# Altium footprint library Keebs.PcbLib: 219 footprints (part 13 of 14)
Each footprint in its own frame and in the unit in brackets; x right, y up, seen from the top. Pads: shape width x height; smd on the part's side, far side on the other; paste and mask are expansions set on the pad; w line width, h text height; cw(c..) or ccw(c..) is an arc to the next point about the centre after c.
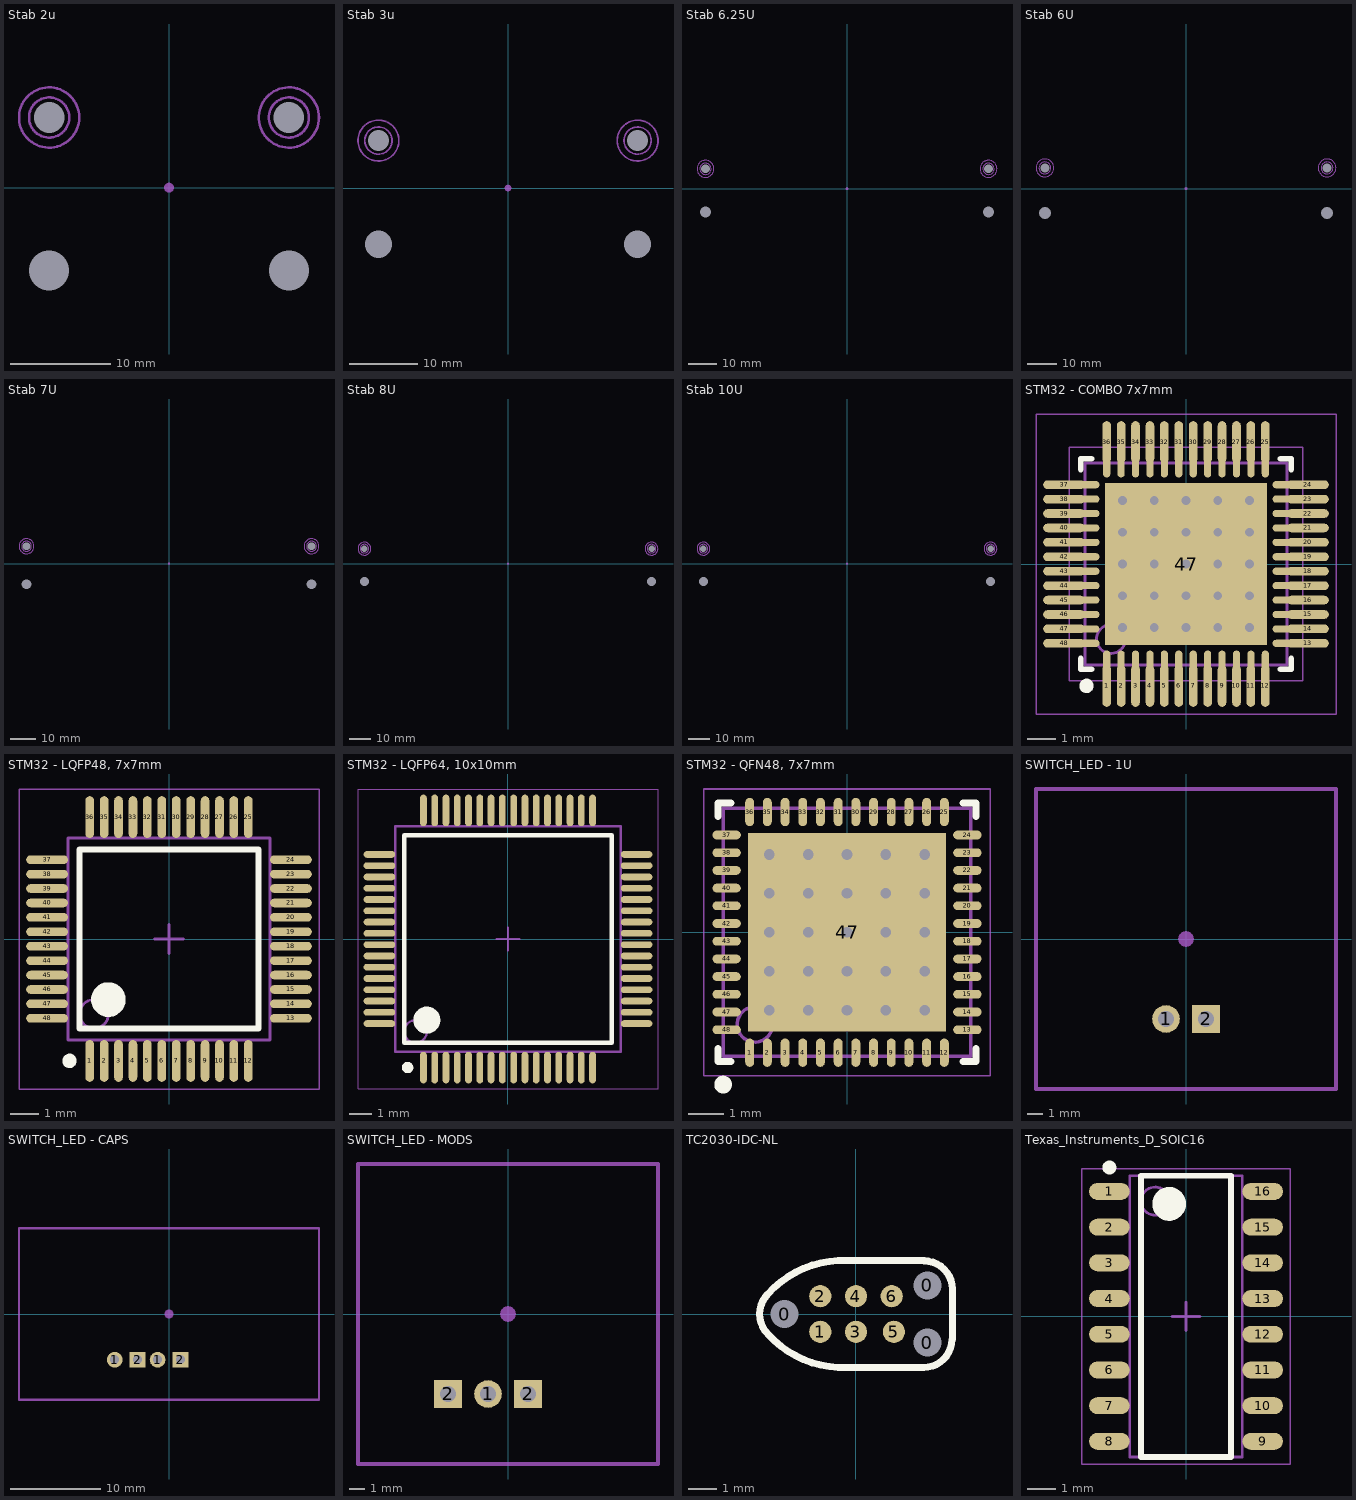
[diagram p12: the footprints below, top view; thin cyan lines are the x and y axes]

## Stab 2u [mil]
pads (6):
  round 60 hole 157.48 unplated: ""(-470,-325) ""(470,-325)
  round 60 hole 120 unplated: ""(-470,275) ""(470,275)
  round 39.37 on Mech13: ""(0,0) ""(0,0)
Mechanical 15:
  circle w10: c470,275 r118.11
  circle w10: c470,275 r78.74
  circle w10: c-470,275 r118.11
  circle w10: c-470,275 r78.74

## Stab 3u [mil]
pads (6):
  round 60 hole 157.48 unplated: ""(-750,-325) ""(750,-325)
  round 60 hole 120 unplated: ""(-750,275) ""(750,275)
  round 39.37 on Mech13: ""(0,0) ""(0,0)
Mechanical 15:
  circle w10: c-750,275 r118.11
  circle w10: c-750,275 r78.74
  circle w10: c750,275 r118.11
  circle w10: c750,275 r78.74

## Stab 6.25U [mil]
pads (5):
  round 60 hole 157.48 unplated: ""(-1968.5,-325) ""(1968.5,-325)
  round 60 hole 120 unplated: ""(-1968.5,275) ""(1968.5,275)
  round 39.37 on Mech13: ""(0,0)
Mechanical 15:
  circle w10: c-1968.5,275 r118.11
  circle w10: c-1968.5,275 r78.74
  circle w10: c1968.5,275 r118.11
  circle w10: c1968.5,275 r78.74

## Stab 6U [mil]
pads (5):
  round 60 hole 157.48 unplated: ""(-1875,-325) ""(1875,-325)
  round 60 hole 120 unplated: ""(-1875,275) ""(1875,275)
  round 39.37 on Mech13: ""(0,0)
Mechanical 15:
  circle w10: c-1875,275 r118.11
  circle w10: c-1875,275 r78.74
  circle w10: c1875,275 r118.11
  circle w10: c1875,275 r78.74

## Stab 7U [mil]
pads (5):
  round 60 hole 157.48 unplated: ""(-2250,-325) ""(2250,-325)
  round 60 hole 120 unplated: ""(-2250,275) ""(2250,275)
  round 39.37 on Mech13: ""(0,0)
Mechanical 15:
  circle w10: c-2250,275 r118.11
  circle w10: c-2250,275 r78.74
  circle w10: c2250,275 r118.11
  circle w10: c2250,275 r78.74

## Stab 8U [mil]
pads (5):
  round 60 hole 157.48 unplated: ""(-2625,-325) ""(2625,-325)
  round 60 hole 120 unplated: ""(-2625,275) ""(2625,275)
  round 39.37 on Mech13: ""(0,0)
Mechanical 15:
  circle w10: c2625,275 r78.74
  circle w10: c2625,275 r118.11
  circle w10: c-2625,275 r78.74
  circle w10: c-2625,275 r118.11

## Stab 10U [mil]
pads (5):
  round 60 hole 157.48 unplated: ""(-2625,-325) ""(2625,-325)
  round 60 hole 120 unplated: ""(-2625,275) ""(2625,275)
  round 39.37 on Mech13: ""(0,0)
Mechanical 15:
  circle w10: c2625,275 r78.74
  circle w10: c2625,275 r118.11
  circle w10: c-2625,275 r78.74
  circle w10: c-2625,275 r118.11

## STM32 - COMBO 7x7mm [mm] "LQFP48, 7x7mm"
height 1.6
pads (97):
  oval 0.3x1.45 smd paste-5: 1(-2.75,-4.225) 2(-2.25,-4.225) 3(-1.75,-4.225) 4(-1.25,-4.225) 5(-0.75,-4.225) 6(-0.25,-4.225) 7(0.25,-4.225) 8(0.75,-4.225) 9(1.25,-4.225) 10(1.75,-4.225) 11(2.25,-4.225) 12(2.75,-4.225) 25(2.75,4.225) 26(2.25,4.225) 27(1.75,4.225) 28(1.25,4.225) 29(0.75,4.225) 30(0.25,4.225) 31(-0.25,4.225) 32(-0.75,4.225) 33(-1.25,4.225) 34(-1.75,4.225) 35(-2.25,4.225) 36(-2.75,4.225)
  oval 0.25x0.8 smd: 1(-2.75,-3.4) 2(-2.25,-3.4) 3(-1.75,-3.4) 4(-1.25,-3.4) 5(-0.75,-3.4) 6(-0.25,-3.4) 7(0.25,-3.4) 8(0.75,-3.4) 9(1.25,-3.4) 10(1.75,-3.4) 11(2.25,-3.4) 12(2.75,-3.4) 25(2.75,3.4) 26(2.25,3.4) 27(1.75,3.4) 28(1.25,3.4) 29(0.75,3.4) 30(0.25,3.4) 31(-0.25,3.4) 32(-0.75,3.4) 33(-1.25,3.4) 34(-1.75,3.4) 35(-2.25,3.4) 36(-2.75,3.4)
  oval 0.8x0.25 smd: 13(3.4,-2.75) 14(3.4,-2.25) 15(3.4,-1.75) 16(3.4,-1.25) 17(3.4,-0.75) 18(3.4,-0.25) 19(3.4,0.25) 20(3.4,0.75) 21(3.4,1.25) 22(3.4,1.75) 23(3.4,2.25) 24(3.4,2.75) 37(-3.4,2.75) 38(-3.4,2.25) 39(-3.4,1.75) 40(-3.4,1.25) 41(-3.4,0.75) 42(-3.4,0.25) 43(-3.4,-0.25) 44(-3.4,-0.75) 45(-3.4,-1.25) 46(-3.4,-1.75) 47(-3.4,-2.25) 48(-3.4,-2.75)
  oval 1.45x0.3 smd paste-5: 13(4.225,-2.75) 14(4.225,-2.25) 15(4.225,-1.75) 16(4.225,-1.25) 17(4.225,-0.75) 18(4.225,-0.25) 19(4.225,0.25) 20(4.225,0.75) 21(4.225,1.25) 22(4.225,1.75) 23(4.225,2.25) 24(4.225,2.75) 37(-4.225,2.75) 38(-4.225,2.25) 39(-4.225,1.75) 40(-4.225,1.25) 41(-4.225,0.75) 42(-4.225,0.25) 43(-4.225,-0.25) 44(-4.225,-0.75) 45(-4.225,-1.25) 46(-4.225,-1.75) 47(-4.225,-2.25) 48(-4.225,-2.75)
  rect 5.6x5.6 smd: 47(0,0)
via -2.2,-1.1 diameter 0.6 hole 0.3
via -2.2,1.1 diameter 0.6 hole 0.3
via -1.1,-2.2 diameter 0.6 hole 0.3
via -1.1,0 diameter 0.6 hole 0.3
via -1.1,2.2 diameter 0.6 hole 0.3
via 0,-1.1 diameter 0.6 hole 0.3
via 0,1.1 diameter 0.6 hole 0.3
via 1.1,-2.2 diameter 0.6 hole 0.3
via 1.1,0 diameter 0.6 hole 0.3
via 1.1,2.2 diameter 0.6 hole 0.3
via 2.2,-1.1 diameter 0.6 hole 0.3
via 2.2,1.1 diameter 0.6 hole 0.3
via -2.2,-2.2 diameter 0.6 hole 0.3
via -2.2,0 diameter 0.6 hole 0.3
via -2.2,2.2 diameter 0.6 hole 0.3
via -1.1,-1.1 diameter 0.6 hole 0.3
via -1.1,1.1 diameter 0.6 hole 0.3
via 0,-2.2 diameter 0.6 hole 0.3
via 0,0 diameter 0.6 hole 0.3
via 0,2.2 diameter 0.6 hole 0.3
via 1.1,-1.1 diameter 0.6 hole 0.3
via 1.1,1.1 diameter 0.6 hole 0.3
via 2.2,-2.2 diameter 0.6 hole 0.3
via 2.2,0 diameter 0.6 hole 0.3
via 2.2,2.2 diameter 0.6 hole 0.3
Top Overlay:
  circle w0.25: c-3.45,-4.225 r0.125
  lines w0.2: -3.65,-3.275 -3.65,-3.65 -3.275,-3.65 ; -3.65,3.275 -3.65,3.65 -3.275,3.65 ; 3.275,-3.65 3.65,-3.65 3.65,-3.275 ; 3.275,3.65 3.65,3.65 3.65,3.275
Mechanical 13:
  circle w0.1: c-2.6,-2.6 r0.5
  circle w0.1: c-2.6,-2.6 r0.5
  lines w0.1: -3.5,-3.5 -3.5,3.5 ; -3.5,-3.5 3.5,-3.5 ; -3.5,-3.5 3.5,-3.5 ; -3.5,-3.5 -3.5,3.5 ; -3.5,3.5 3.5,3.5 ; -3.5,3.5 3.5,3.5 ; 3.5,-3.5 3.5,3.5 ; 3.5,-3.5 3.5,3.5
  text ".Designator" at 0.15,-1.806 h0.35
Mechanical 15:
  lines w0.05: -5.2,-5.2 -5.2,5.2 5.2,5.2 5.2,-5.2 -5.2,-5.2 ; -4.05,-4.05 4.05,-4.05 4.05,4.05 -4.05,4.05 -4.05,-4.05
  lines w0.1: -0.5,0 0.5,0 -0.5,0 ; 0,-0.5 0,0.5 0,-0.5
3D body "STM32 - QFN48, 7x7mm.step": height 0.5, standoff 0, extent -3.52,-3.52 3.52,3.52

## STM32 - LQFP48, 7x7mm [mm] "LQFP48, 7x7mm"
height 1.6
pads (48):
  oval 0.3x1.45 smd: 1(-2.75,-4.225) 2(-2.25,-4.225) 3(-1.75,-4.225) 4(-1.25,-4.225) 5(-0.75,-4.225) 6(-0.25,-4.225) 7(0.25,-4.225) 8(0.75,-4.225) 9(1.25,-4.225) 10(1.75,-4.225) 11(2.25,-4.225) 12(2.75,-4.225) 25(2.75,4.225) 26(2.25,4.225) 27(1.75,4.225) 28(1.25,4.225) 29(0.75,4.225) 30(0.25,4.225) 31(-0.25,4.225) 32(-0.75,4.225) 33(-1.25,4.225) 34(-1.75,4.225) 35(-2.25,4.225) 36(-2.75,4.225)
  oval 1.45x0.3 smd: 13(4.225,-2.75) 14(4.225,-2.25) 15(4.225,-1.75) 16(4.225,-1.25) 17(4.225,-0.75) 18(4.225,-0.25) 19(4.225,0.25) 20(4.225,0.75) 21(4.225,1.25) 22(4.225,1.75) 23(4.225,2.25) 24(4.225,2.75) 37(-4.225,2.75) 38(-4.225,2.25) 39(-4.225,1.75) 40(-4.225,1.25) 41(-4.225,0.75) 42(-4.225,0.25) 43(-4.225,-0.25) 44(-4.225,-0.75) 45(-4.225,-1.25) 46(-4.225,-1.75) 47(-4.225,-2.25) 48(-4.225,-2.75)
Top Overlay:
  circle w0.6: c-2.1,-2.1 r0.3
  circle w0.25: c-3.45,-4.225 r0.125
  lines w0.2: -3.1,-3.1 -3.1,3.1 3.1,3.1 3.1,-3.1 -3.1,-3.1
Mechanical 13:
  circle w0.1: c-2.6,-2.6 r0.5
  lines w0.1: -3.5,-3.5 -3.5,3.5 3.5,3.5 3.5,-3.5 -3.5,-3.5
  text ".Designator" at 0.15,-1.806 h0.35
Mechanical 15:
  lines w0.05: -5.2,-5.2 -5.2,5.2 5.2,5.2 5.2,-5.2 -5.2,-5.2
  lines w0.1: -0.5,0 0.5,0 ; 0,-0.5 0,0.5
3D body "STM32F072.step": height 1.6, standoff 0, extent -4.5,-4.5 4.5,4.5

## STM32 - LQFP64, 10x10mm [mm] "TSQFP, 64-Leads, Body 10.00x10.00mm, Pitch 0.50mm, IPC Medium Density"
height 1.5
pads (64):
  oval 0.3x1.4 smd: 1(-3.75,-5.7) 2(-3.25,-5.7) 3(-2.75,-5.7) 4(-2.25,-5.7) 5(-1.75,-5.7) 6(-1.25,-5.7) 7(-0.75,-5.7) 8(-0.25,-5.7) 9(0.25,-5.7) 10(0.75,-5.7) 11(1.25,-5.7) 12(1.75,-5.7) 13(2.25,-5.7) 14(2.75,-5.7) 15(3.25,-5.7) 16(3.75,-5.7) 33(3.75,5.7) 34(3.25,5.7) 35(2.75,5.7) 36(2.25,5.7) 37(1.75,5.7) 38(1.25,5.7) 39(0.75,5.7) 40(0.25,5.7) 41(-0.25,5.7) 42(-0.75,5.7) 43(-1.25,5.7) 44(-1.75,5.7) 45(-2.25,5.7) 46(-2.75,5.7) 47(-3.25,5.7) 48(-3.75,5.7)
  oval 1.4x0.3 smd: 17(5.7,-3.75) 18(5.7,-3.25) 19(5.7,-2.75) 20(5.7,-2.25) 21(5.7,-1.75) 22(5.7,-1.25) 23(5.7,-0.75) 24(5.7,-0.25) 25(5.7,0.25) 26(5.7,0.75) 27(5.7,1.25) 28(5.7,1.75) 29(5.7,2.25) 30(5.7,2.75) 31(5.7,3.25) 32(5.7,3.75) 49(-5.7,3.75) 50(-5.7,3.25) 51(-5.7,2.75) 52(-5.7,2.25) 53(-5.7,1.75) 54(-5.7,1.25) 55(-5.7,0.75) 56(-5.7,0.25) 57(-5.7,-0.25) 58(-5.7,-0.75) 59(-5.7,-1.25) 60(-5.7,-1.75) 61(-5.7,-2.25) 62(-5.7,-2.75) 63(-5.7,-3.25) 64(-5.7,-3.75)
Top Overlay:
  circle w0.25: c-4.45,-5.7 r0.125
  circle w0.6: c-3.6,-3.6 r0.3
  lines w0.2: -4.6,-4.6 4.6,-4.6 4.6,4.6 -4.6,4.6 -4.6,-4.6
Mechanical 13:
  circle w0.1: c-4.1,-4.1 r0.5
  lines w0.1: -5,-5 5,-5 5,5 -5,5 -5,-5
  text ".Designator" at 0.15,-1.806 h0.35
Mechanical 15:
  lines w0.05: -6.65,-6.65 6.65,-6.65 6.65,6.65 -6.65,6.65 -6.65,-6.65
  lines w0.1: -0.5,0 0.5,0 ; 0,-0.5 0,0.5
3D body "STM32 - LQFP64, 10x10mm.step": height 1.5, standoff 0, extent -6,-6 6,6

## STM32 - QFN48, 7x7mm [mm] "QFN, 48-Leads, Body 6,95x6,95mm, Pitch 0,50mm, Thermal Pad 5,60x5,60mm, IPC Medium Density"
height 0.5
pads (49):
  oval 0.25x0.8 smd: 1(-2.75,-3.4) 2(-2.25,-3.4) 3(-1.75,-3.4) 4(-1.25,-3.4) 5(-0.75,-3.4) 6(-0.25,-3.4) 7(0.25,-3.4) 8(0.75,-3.4) 9(1.25,-3.4) 10(1.75,-3.4) 11(2.25,-3.4) 12(2.75,-3.4) 25(2.75,3.4) 26(2.25,3.4) 27(1.75,3.4) 28(1.25,3.4) 29(0.75,3.4) 30(0.25,3.4) 31(-0.25,3.4) 32(-0.75,3.4) 33(-1.25,3.4) 34(-1.75,3.4) 35(-2.25,3.4) 36(-2.75,3.4)
  oval 0.8x0.25 smd: 13(3.4,-2.75) 14(3.4,-2.25) 15(3.4,-1.75) 16(3.4,-1.25) 17(3.4,-0.75) 18(3.4,-0.25) 19(3.4,0.25) 20(3.4,0.75) 21(3.4,1.25) 22(3.4,1.75) 23(3.4,2.25) 24(3.4,2.75) 37(-3.4,2.75) 38(-3.4,2.25) 39(-3.4,1.75) 40(-3.4,1.25) 41(-3.4,0.75) 42(-3.4,0.25) 43(-3.4,-0.25) 44(-3.4,-0.75) 45(-3.4,-1.25) 46(-3.4,-1.75) 47(-3.4,-2.25) 48(-3.4,-2.75)
  rect 5.6x5.6 smd: 47(0,0)
via 2.2,2.2 diameter 0.6 hole 0.3
via 2.2,1.1 diameter 0.6 hole 0.3
via 2.2,0 diameter 0.6 hole 0.3
via 2.2,-1.1 diameter 0.6 hole 0.3
via 2.2,-2.2 diameter 0.6 hole 0.3
via 1.1,2.2 diameter 0.6 hole 0.3
via 1.1,1.1 diameter 0.6 hole 0.3
via 1.1,0 diameter 0.6 hole 0.3
via 1.1,-1.1 diameter 0.6 hole 0.3
via 1.1,-2.2 diameter 0.6 hole 0.3
via 0,2.2 diameter 0.6 hole 0.3
via 0,1.1 diameter 0.6 hole 0.3
via 0,0 diameter 0.6 hole 0.3
via 0,-1.1 diameter 0.6 hole 0.3
via 0,-2.2 diameter 0.6 hole 0.3
via -1.1,2.2 diameter 0.6 hole 0.3
via -1.1,1.1 diameter 0.6 hole 0.3
via -1.1,0 diameter 0.6 hole 0.3
via -1.1,-1.1 diameter 0.6 hole 0.3
via -1.1,-2.2 diameter 0.6 hole 0.3
via -2.2,2.2 diameter 0.6 hole 0.3
via -2.2,1.1 diameter 0.6 hole 0.3
via -2.2,0 diameter 0.6 hole 0.3
via -2.2,-1.1 diameter 0.6 hole 0.3
via -2.2,-2.2 diameter 0.6 hole 0.3
Top Overlay:
  circle w0.25: c-3.5,-4.3 r0.125
  lines w0.2: -3.65,-3.275 -3.65,-3.65 -3.275,-3.65 ; -3.65,3.275 -3.65,3.65 -3.275,3.65 ; 3.275,-3.65 3.65,-3.65 3.65,-3.275 ; 3.275,3.65 3.65,3.65 3.65,3.275
Mechanical 13:
  circle w0.1: c-2.6,-2.6 r0.5
  lines w0.1: -3.5,-3.5 -3.5,3.5 3.5,3.5 3.5,-3.5 -3.5,-3.5
  text ".Designator" at -0.485,-1.552 h0.35
Mechanical 15:
  lines w0.05: -4.05,-4.05 -4.05,4.05 4.05,4.05 4.05,-4.05 -4.05,-4.05
  lines w0.1: -0.5,0 0.5,0 ; 0,-0.5 0,0.5
3D body "STM32 - QFN48, 7x7mm.step": height 0.5, standoff 0, extent -3.52,-3.52 3.52,3.52

## SWITCH_LED - 1U [mm]
pads (3):
  round 1.75 hole 1 mask-0.4: 1(-1.27,-5.08)
  rect 1.75x1.75 hole 1 mask-0.7: 2(1.27,-5.08)
  round 1 on Mech13: ""(0,0)
Mechanical 13:
  lines w0.254: -9.525,-9.525 -9.525,9.525 9.525,9.525 9.525,-9.525 -9.525,-9.525
  text ".Designator" at -3.575,-3.7 h0.7

## SWITCH_LED - CAPS [mm]
pads (5):
  round 1.75 hole 1 mask-0.4: 1(-6.032,-5.08) 1(-1.27,-5.08)
  rect 1.75x1.75 hole 1 mask-0.7: 2(-3.492,-5.08) 2(1.27,-5.08)
  round 1 on Mech13: ""(0,0)
Mechanical 13:
  lines w0.254: -16.669,-9.525 -16.669,9.525 16.669,9.525 16.669,-9.525 ; -16.669,-9.525 16.669,-9.525 ; -16.669,-9.525 16.669,-9.525
  text ".Designator" at -7.85,-7.5 h0.7

## SWITCH_LED - MODS [mm]
pads (4):
  round 1.75 hole 1 mask-0.4: 1(-1.27,-5.08)
  rect 1.75x1.75 hole 1 mask-0.7: 2(-3.81,-5.08) 2(1.27,-5.08)
  round 1 on Mech13: ""(0,0)
Mechanical 13:
  lines w0.254: -9.525,-9.525 -9.525,9.525 9.525,9.525 9.525,-9.525 -9.525,-9.525
  text ".Designator" at -3.575,-3.7 h0.7

## TC2030-IDC-NL [mm] "Tag-Connect 6-Pin with No Legs (PN# TC2030-IDC-NL)"
pads (9):
  round 0.9 hole 0.995 unplated: 0(-2.54,0) 0(2.54,-1.016) 0(2.54,1.016)
  round 0.79 smd paste-0.39: 1(-1.27,-0.635) 2(-1.27,0.635) 3(0,-0.635) 4(0,0.635) 5(1.35,-0.635) 6(1.27,0.635)
Top Overlay:
  lines w0.254: -0.635,-1.905 cw(c-0.445,1.714) -3.129,-0.72 cw(c-2.415,0) -3.135,0.714 cw(c-0.445,-1.714) -0.635,1.905 ; -0.635,-1.9 2.413,-1.9 ; -0.635,1.9 2.429,1.9 ; 2.413,-1.905 ccw(c2.413,-0.905) 3.413,-0.905 ; 2.429,1.889 cw(c2.429,0.889) 3.429,0.889 3.429,-0.905

## Texas_Instruments_D_SOIC16 [mm]
height 1.75
pads (16):
  oval 1.45x0.6 smd: 1(-2.725,4.445) 2(-2.725,3.175) 3(-2.725,1.905) 4(-2.725,0.635) 5(-2.725,-0.635) 6(-2.725,-1.905) 7(-2.725,-3.175) 8(-2.725,-4.445) 9(2.725,-4.445) 10(2.725,-3.175) 11(2.725,-1.905) 12(2.725,-0.635) 13(2.725,0.635) 14(2.725,1.905) 15(2.725,3.175) 16(2.725,4.445)
Top Overlay:
  circle w0.25: c-2.725,5.295 r0.125
  circle w0.6: c-0.6,4 r0.3
  lines w0.2: -1.6,-5 -1.6,5 1.6,5 1.6,-5 -1.6,-5
Mechanical 13:
  circle w0.1: c-1.1,4.1 r0.5
  lines w0.1: -2,-5 -2,5 2,5 2,-5 -2,-5
  text ".Designator" at -0.356,1.575 h0.7
Mechanical 15:
  lines w0.05: -3.7,-5.25 -3.7,5.25 3.7,5.25 3.7,-5.25 -3.7,-5.25
  lines w0.1: -0.5,0 0.5,0 ; 0,-0.5 0,0.5
3D body "Texas_Instruments_D_SOIC16.step": height 1.75, standoff 0, extent -3,-5 3,5